# Altium footprint library myPcbLib1.PcbLib: 133 footprints (part 5 of 9)
Each footprint in its own frame and in the unit in brackets; x right, y up, seen from the top. Pads: shape width x height; smd on the part's side, far side on the other; paste and mask are expansions set on the pad; w line width, h text height; cw(c..) or ccw(c..) is an arc to the next point about the centre after c.
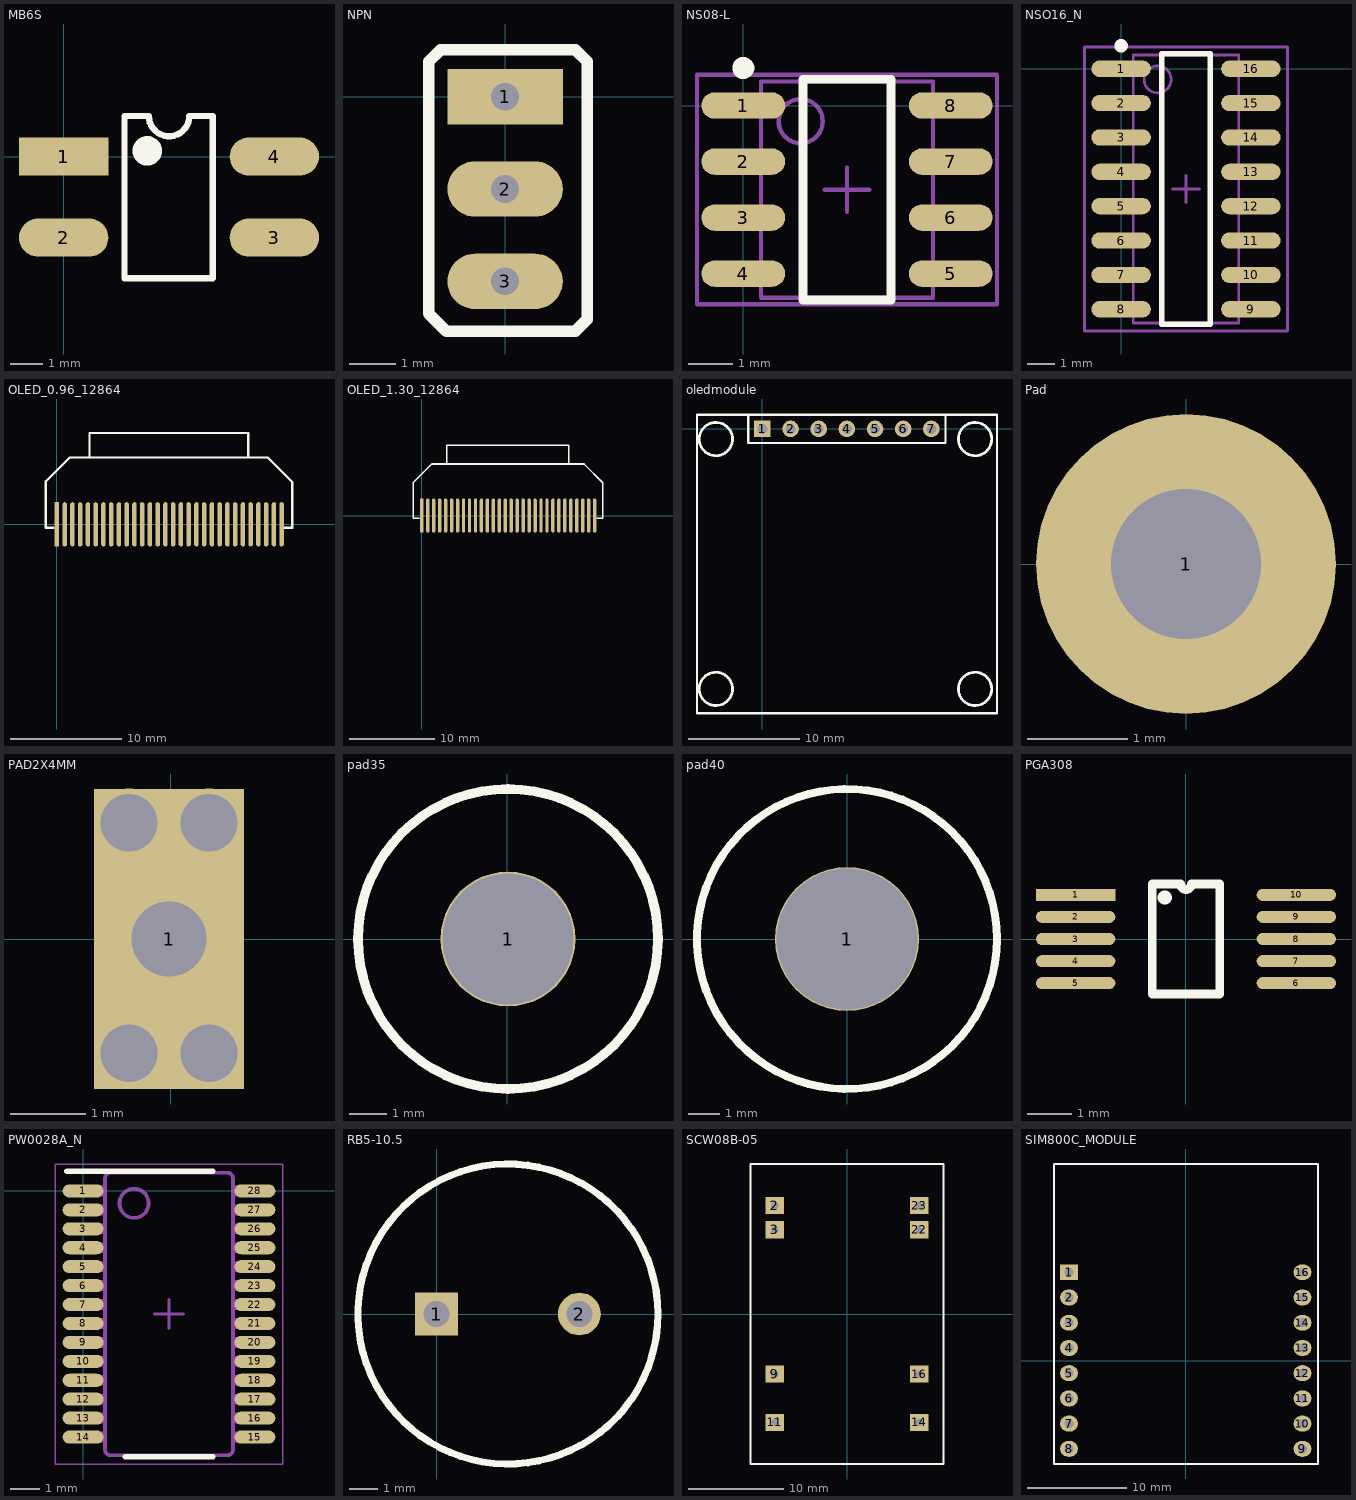
[diagram p4: the footprints below, top view; thin cyan lines are the x and y axes]

## MB6S [mm]
pads (4):
  rect 2.8x1.2 smd: 1(0,0)
  oval 2.8x1.2 smd: 2(0,-2.54) 3(6.6,-2.54) 4(6.6,0)
Top Overlay:
  circle w0.6: c2.616,0.178 r0.163
  lines w0.2: 2.665,1.27 1.905,1.27 1.905,-3.81 4.674,-3.81 4.674,1.27 3.935,1.27 ; 2.667,1.27 ccw(c3.302,1.27) 3.937,1.27

## NPN [mm]
pads (3):
  rect 2.5x1.2 hole 0.6: 1(0,0)
  oval 2.5x1.2 hole 0.6: 2(0,-2) 3(0,-4)
Top Overlay:
  lines w0.254: -1.651,-4.699 -1.27,-5.08 1.27,-5.08 1.524,-5.08 1.778,-4.826 1.778,-4.572 1.778,0.762 1.524,1.016 -1.397,1.016 -1.651,0.762 -1.651,-4.699

## NS08-L [mm] "SOIC, 8-Leads, Body 4.9x3.9mm, Pitch 1.27mm, IPC High Density"
pads (8):
  oval 1.9x0.6 smd: 1(0,0) 2(0,-1.27) 3(0,-2.54) 4(0,-3.81) 5(4.7,-3.81) 6(4.7,-2.54) 7(4.7,-1.27) 8(4.7,0)
Top Overlay:
  circle w0.25: c0,0.85 r0.125
  lines w0.2: 1.35,-4.405 3.35,-4.405 3.35,0.595 1.35,0.595 1.35,-4.405
Mechanical 13:
  circle w0.1: c1.3,-0.355 r0.5
  lines w0.1: 0.4,-4.355 4.3,-4.355 4.3,0.545 0.4,0.545 0.4,-4.355
Mechanical 15:
  lines w0.1: 1.85,-1.905 2.85,-1.905 ; 2.35,-2.405 2.35,-1.405 ; -1.05,-4.505 5.75,-4.505 5.75,0.695 -1.05,0.695 -1.05,-4.505
3D body: height 1.75, standoff 0, extent 0.4,-4.355 4.3,0.545

## NSO16_N [mm]
pads (16):
  oval 2.2x0.6 smd: 1(0,0) 2(0,-1.27) 3(0,-2.54) 4(0,-3.81) 5(0,-5.08) 6(0,-6.35) 7(0,-7.62) 8(0,-8.89) 9(4.8,-8.89) 10(4.8,-7.62) 11(4.8,-6.35) 12(4.8,-5.08) 13(4.8,-3.81) 14(4.8,-2.54) 15(4.8,-1.27) 16(4.8,0)
Top Overlay:
  circle w0.25: c0,0.85 r0.125
  lines w0.2: 1.5,-9.445 3.3,-9.445 3.3,0.555 1.5,0.555 1.5,-9.445
Mechanical 13:
  circle w0.1: c1.35,-0.395 r0.5
  lines w0.1: 0.45,-9.395 4.35,-9.395 4.35,0.505 0.45,0.505 0.45,-9.395
Mechanical 15:
  lines w0.1: 1.9,-4.445 2.9,-4.445 ; 2.4,-4.945 2.4,-3.945 ; -1.35,-9.695 6.15,-9.695 6.15,0.805 -1.35,0.805 -1.35,-9.695
3D body: height 1.75, standoff 0, extent 0.45,-9.395 4.35,0.505

## OLED_0.96_12864 [mm]
pads (30):
  rect 0.4x4 smd: 1(0,0)
  oval 0.4x4 smd: 2(0.7,0) 3(1.4,0) 4(2.1,0) 5(2.8,0) 6(3.5,0) 7(4.2,0) 8(4.9,0) 9(5.6,0) 10(6.3,0) 11(7,0) 12(7.7,0) 13(8.4,0) 14(9.1,0) 15(9.8,0) 16(10.5,0) 17(11.2,0) 18(11.9,0) 19(12.6,0) 20(13.3,0) 21(14,0) 22(14.7,0) 23(15.4,0) 24(16.1,0) 25(16.8,0) 26(17.5,0) 27(18.2,0) 28(18.9,0) 29(19.6,0) 30(20.3,0)
Top Overlay:
  lines w0.2: -0.305,-0.305 -1.016,-0.305 -1.016,3.835 -1.016,3.861 -1.016,3.886 -0.991,3.886 1.168,6.045 19.05,6.045 ; 2.946,6.096 2.946,8.255 17.272,8.255 17.272,6.782 17.272,6.071 ; 19.101,5.994 21.26,3.835 21.26,-0.305 20.549,-0.305
Bottom Overlay:
  lines w0.2: -3.429,-15.418 23.673,-15.418 23.673,3.861 -3.429,3.861 -3.429,-15.418

## OLED_1.30_12864 [mm]
pads (30):
  rect 0.4x4 smd: 1(0,0)
  oval 0.4x4 smd: 2(0.7,0) 3(1.4,0) 4(2.1,0) 5(2.8,0) 6(3.5,0) 7(4.2,0) 8(4.9,0) 9(5.6,0) 10(6.3,0) 11(7,0) 12(7.7,0) 13(8.4,0) 14(9.1,0) 15(9.8,0) 16(10.5,0) 17(11.2,0) 18(11.9,0) 19(12.6,0) 20(13.3,0) 21(14,0) 22(14.7,0) 23(15.4,0) 24(16.1,0) 25(16.8,0) 26(17.5,0) 27(18.2,0) 28(18.9,0) 29(19.6,0) 30(20.3,0)
Top Overlay:
  lines w0.2: -0.305,-0.305 -1.016,-0.305 -1.016,3.835 -1.016,3.861 -1.016,3.886 -0.991,3.886 1.168,6.045 19.05,6.045 ; 2.946,6.096 2.946,8.255 17.272,8.255 17.272,6.782 17.272,6.071 ; 19.101,5.994 21.26,3.835 21.26,-0.305 20.549,-0.305
Bottom Overlay:
  lines w0.2: 27.711,-19.634 -7.493,-19.634 -7.493,3.861 -3.429,3.861 23.673,3.861 27.737,3.861 27.737,-19.583 27.711,-19.609

## oledmodule [mm]
pads (7):
  rect 1.5x1.5 hole 0.9: 1(0,0)
  round 1.5 hole 0.9: 2(2.54,0) 3(5.08,0) 4(7.62,0) 5(10.16,0) 6(12.7,0) 7(15.24,0)
Top Overlay:
  circle w0.254: c-4.191,-23.444 r1.5
  circle w0.254: c19.177,-23.444 r1.5
  circle w0.254: c19.177,-0.914 r1.5
  circle w0.254: c-4.191,-0.914 r1.5
  lines w0.2: 16.535,1.27 -1.27,1.27 ; -1.27,1.27 -5.893,1.27 -5.893,-25.629 21.158,-25.629 21.158,1.27 16.51,1.27 16.51,-1.27 -1.27,-1.27 -1.27,1.27

## Pad [mm]
pads (1):
  round 3 hole 1.5: 1(0,0)

## PAD2X4MM [mm]
pads (1):
  rect 2x4 hole 1: 1(-0.025,0)
via 0.508,1.549 diameter 0.914 hole 0.762
via -0.559,1.549 diameter 0.914 hole 0.762
via -0.559,-1.524 diameter 0.914 hole 0.762
via 0.508,-1.524 diameter 0.914 hole 0.762

## pad35 [mm]
pads (1):
  round 3.6 hole 3.5: 1(0.025,0)
Top Overlay:
  circle w0.254: c0.025,0 r4

## pad40 [mm]
pads (1):
  round 4.6 hole 4.5: 1(0,0)
Top Overlay:
  circle w0.254: c0,0 r4.8

## PGA308 [mm]
pads (10):
  rect 1.8x0.27 smd: 1(-2.5,1)
  oval 1.8x0.27 smd: 2(-2.5,0.5) 3(-2.5,0) 4(-2.5,-0.5) 5(-2.5,-1) 6(2.5,-1) 7(2.5,-0.5) 8(2.5,0) 9(2.5,0.5) 10(2.5,1)
Top Overlay:
  circle w0.25: c-0.483,0.94 r0.036
  lines w0.2: -0.765,-1.25 -0.765,1.25 -0.125,1.25 ccw(c0,1.25) 0.125,1.25 0.765,1.25 0.765,-1.25 -0.765,-1.25

## PW0028A_N [mm]
pads (28):
  oval 1.4x0.45 smd: 1(0,0) 2(0,-0.65) 3(0,-1.3) 4(0,-1.95) 5(0,-2.6) 6(0,-3.25) 7(0,-3.9) 8(0,-4.55) 9(0,-5.2) 10(0,-5.85) 11(0,-6.5) 12(0,-7.15) 13(0,-7.8) 14(0,-8.45) 15(5.9,-8.45) 16(5.9,-7.8) 17(5.9,-7.15) 18(5.9,-6.5) 19(5.9,-5.85) 20(5.9,-5.2) 21(5.9,-4.55) 22(5.9,-3.9) 23(5.9,-3.25) 24(5.9,-2.6) 25(5.9,-1.95) 26(5.9,-1.3) 27(5.9,-0.65) 28(5.9,0)
Top Overlay:
  lines w0.2: -0.55,0.675 4.45,0.675 ; 1.45,-9.125 4.45,-9.125
Mechanical 5:
  drawing of 346 lines, arcs and shapes, not listed
Mechanical 15:
  lines w0.05: -0.95,-9.375 -0.95,0.925 6.85,0.925 6.85,-9.375 -0.95,-9.375
  lines w0.1: 2.45,-4.225 3.45,-4.225 ; 2.95,-4.725 2.95,-3.725
3D body: height 1, standoff 0, extent -0.26,-9.075 6.16,0.625

## RB5-10.5 [mm] "Motor, General Kind; 2 Leads"
pads (2):
  rect 1.5x1.5 hole 0.9: 1(0,0)
  round 1.5 hole 0.9: 2(5,0)
Top Overlay:
  circle w0.25: c2.5,0 r5.25
Mechanical 1:
  circle w0.02: c2.5,0 r5.25

## SCW08B-05 [mm]
pads (8):
  rect 2x1.8 hole 0.8: 2(-7.62,11.43) 3(-7.62,8.89) 9(-7.62,-6.35) 11(-7.62,-11.43) 14(7.62,-11.43) 16(7.62,-6.35) 22(7.62,8.89) 23(7.62,11.43)
Top Overlay:
  lines w0.2: -10.16,-15.824 10.16,-15.824 10.16,15.824 -10.16,15.824 -10.16,-15.824

## SIM800C_MODULE [mm]
pads (16):
  rect 1.8x1.6 hole 0.9: 1(-11.75,8.89)
  oval 1.8x1.6 hole 0.9: 2(-11.75,6.35) 3(-11.75,3.81) 4(-11.75,1.27) 5(-11.75,-1.27) 6(-11.75,-3.81) 7(-11.75,-6.35) 8(-11.75,-8.89) 9(11.75,-8.89) 10(11.75,-6.35) 11(11.75,-3.81) 12(11.75,-1.27) 13(11.75,1.27) 14(11.75,3.81) 15(11.75,6.35) 16(11.75,8.89)
Top Overlay:
  lines w0.2: -13.274,-10.414 13.32,-10.414 13.32,19.787 -13.274,19.787 -13.274,-10.414